# EAGLE library part M50 (library con-subd)
HARTING SUB-D
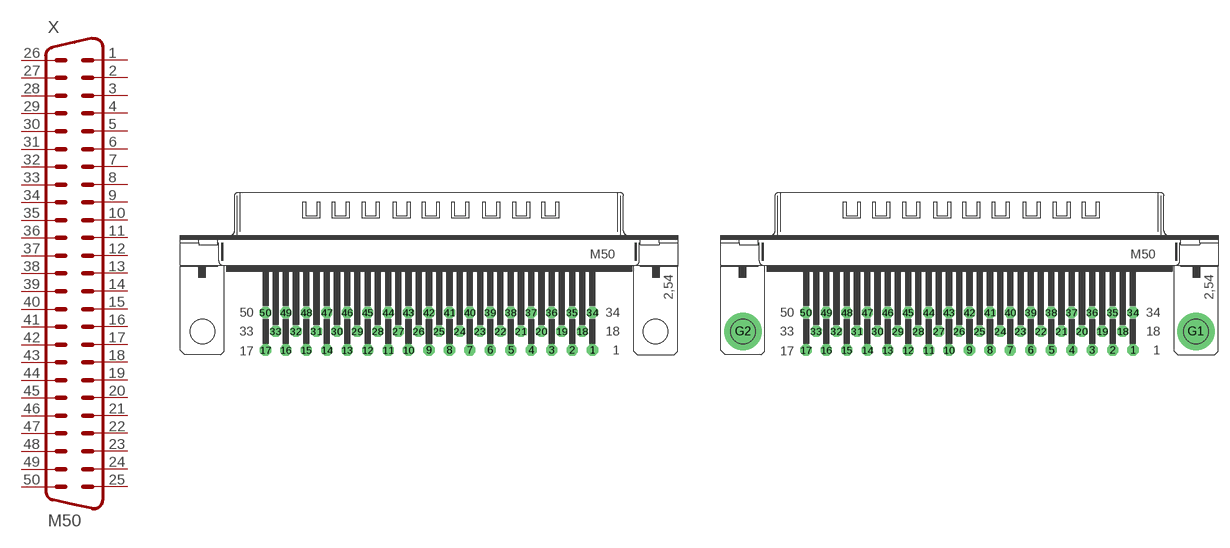
[diagram p2: symbol with the pads of M50H; footprints M50H, M50HP]

Designator prefix X

## M50H  [M50H]
1  1  pas
2  2  pas
3  3  pas
4  4  pas
5  5  pas
6  6  pas
7  7  pas
8  8  pas
9  9  pas
10  10  pas
11  11  pas
12  12  pas
13  13  pas
14  14  pas
15  15  pas
16  16  pas
17  17  pas
18  18  pas
19  19  pas
20  20  pas
21  21  pas
22  22  pas
23  23  pas
24  24  pas
25  25  pas
26  26  pas
27  27  pas
28  28  pas
29  29  pas
30  30  pas
31  31  pas
32  32  pas
33  33  pas
34  34  pas
35  35  pas
36  36  pas
37  37  pas
38  38  pas
39  39  pas
40  40  pas
41  41  pas
42  42  pas
43  43  pas
44  44  pas
45  45  pas
46  46  pas
47  47  pas
48  48  pas
49  49  pas
50  50  pas

## M50HP  [M50HP]
Pads as for M50H

## M50V  [M50V]
Pads as for M50H

## M50VP  [M50VP]
Pads as for M50H

## M50VB  [M50VB]
Pads as for M50H

## Footprint M50H (pad centres in mm)
HARTING SUB-D
drill 1.016 octagon: 1 22.073,-2.54; 2 19.329,-2.54; 3 16.561,-2.54; 4 13.792,-2.54; 5 11.049,-2.54; 6 8.28,-2.54; 7 5.512,-2.54; 8 2.769,-2.54; 9 0,-2.54; 10 -2.769,-2.54; 11 -5.512,-2.54; 12 -8.28,-2.54; 13 -11.049,-2.54; 14 -13.792,-2.54; 15 -16.561,-2.54; 16 -19.329,-2.54; 17 -22.073,-2.54; 18 20.701,0; 19 17.932,0; 20 15.189,0; 21 12.421,0; 22 9.652,0; 23 6.883,0; 24 4.14,0; 25 1.372,0; 26 -1.397,0; 27 -4.14,0; 28 -6.909,0; 29 -9.677,0; 30 -12.421,0; 31 -15.189,0; 32 -17.958,0; 33 -20.701,0; 34 22.073,2.54; 35 19.329,2.54; 36 16.561,2.54; 37 13.792,2.54; 38 11.049,2.54; 39 8.28,2.54; 40 5.512,2.54; 41 2.769,2.54; 42 0,2.54; 43 -2.769,2.54; 44 -5.512,2.54; 45 -8.28,2.54; 46 -11.049,2.54; 47 -13.792,2.54; 48 -16.561,2.54; 49 -19.329,2.54; 50 -22.073,2.54
hole 3.302 at -30.556,0
hole 3.302 at 30.556,0

## Footprint M50HP (pad centres in mm)
HARTING SUB-D
drill 1.016 octagon: 1 22.073,-2.54; 2 19.329,-2.54; 3 16.561,-2.54; 4 13.792,-2.54; 5 11.049,-2.54; 6 8.28,-2.54; 7 5.512,-2.54; 8 2.769,-2.54; 9 0,-2.54; 10 -2.769,-2.54; 11 -5.512,-2.54; 12 -8.28,-2.54; 13 -11.049,-2.54; 14 -13.792,-2.54; 15 -16.561,-2.54; 16 -19.329,-2.54; 17 -22.073,-2.54; 18 20.701,0; 19 17.932,0; 20 15.189,0; 21 12.421,0; 22 9.652,0; 23 6.883,0; 24 4.14,0; 25 1.372,0; 26 -1.397,0; 27 -4.14,0; 28 -6.909,0; 29 -9.677,0; 30 -12.421,0; 31 -15.189,0; 32 -17.958,0; 33 -20.701,0; 34 22.073,2.54; 35 19.329,2.54; 36 16.561,2.54; 37 13.792,2.54; 38 11.049,2.54; 39 8.28,2.54; 40 5.512,2.54; 41 2.769,2.54; 42 0,2.54; 43 -2.769,2.54; 44 -5.512,2.54; 45 -8.28,2.54; 46 -11.049,2.54; 47 -13.792,2.54; 48 -16.561,2.54; 49 -19.329,2.54; 50 -22.073,2.54
drill 3.302 pad 5.08 round: G1 30.556,0; G2 -30.556,0

## Footprint M50V (pad centres in mm)
HARTING SUB-D
drill 1.016 octagon: 1 22.073,-2.845; 2 19.329,-2.845; 3 16.561,-2.845; 4 13.792,-2.845; 5 11.049,-2.845; 6 8.28,-2.845; 7 5.512,-2.845; 8 2.769,-2.845; 9 0,-2.845; 10 -2.769,-2.845; 11 -5.512,-2.845; 12 -8.28,-2.845; 13 -11.049,-2.845; 14 -13.792,-2.845; 15 -16.561,-2.845; 16 -19.329,-2.845; 17 -22.073,-2.845; 18 20.701,0; 19 17.932,0; 20 15.189,0; 21 12.421,0; 22 9.652,0; 23 6.909,0; 24 4.14,0; 25 1.372,0; 26 -1.372,0; 27 -4.14,0; 28 -6.909,0; 29 -9.652,0; 30 -12.421,0; 31 -15.189,0; 32 -17.932,0; 33 -20.701,0; 34 22.073,2.845; 35 19.329,2.845; 36 16.561,2.845; 37 13.792,2.845; 38 11.049,2.845; 39 8.28,2.845; 40 5.512,2.845; 41 2.769,2.845; 42 0,2.845; 43 -2.769,2.845; 44 -5.512,2.845; 45 -8.28,2.845; 46 -11.049,2.845; 47 -13.792,2.845; 48 -16.561,2.845; 49 -19.329,2.845; 50 -22.073,2.845
hole 3.302 at -30.556,0
hole 3.302 at 30.556,0

## Footprint M50VP (pad centres in mm)
HARTING SUB-D
drill 1.016 octagon: 1 22.073,-2.845; 2 19.329,-2.845; 3 16.561,-2.845; 4 13.792,-2.845; 5 11.049,-2.845; 6 8.28,-2.845; 7 5.512,-2.845; 8 2.769,-2.845; 9 0,-2.845; 10 -2.769,-2.845; 11 -5.512,-2.845; 12 -8.28,-2.845; 13 -11.049,-2.845; 14 -13.792,-2.845; 15 -16.561,-2.845; 16 -19.329,-2.845; 17 -22.073,-2.845; 18 20.701,0; 19 17.932,0; 20 15.189,0; 21 12.421,0; 22 9.652,0; 23 6.909,0; 24 4.14,0; 25 1.372,0; 26 -1.372,0; 27 -4.14,0; 28 -6.909,0; 29 -9.652,0; 30 -12.421,0; 31 -15.189,0; 32 -17.932,0; 33 -20.701,0; 34 22.073,2.845; 35 19.329,2.845; 36 16.561,2.845; 37 13.792,2.845; 38 11.049,2.845; 39 8.28,2.845; 40 5.512,2.845; 41 2.769,2.845; 42 0,2.845; 43 -2.769,2.845; 44 -5.512,2.845; 45 -8.28,2.845; 46 -11.049,2.845; 47 -13.792,2.845; 48 -16.561,2.845; 49 -19.329,2.845; 50 -22.073,2.845
drill 3.302 pad 5.08 round: G1 30.556,0; G2 -30.556,0

## Footprint M50VB (pad centres in mm)
drill 1.016 octagon: 1 22.073,-2.845; 2 19.329,-2.845; 3 16.561,-2.845; 4 13.792,-2.845; 5 11.049,-2.845; 6 8.28,-2.845; 7 5.512,-2.845; 8 2.769,-2.845; 9 0,-2.845; 10 -2.769,-2.845; 11 -5.512,-2.845; 12 -8.28,-2.845; 13 -11.049,-2.845; 14 -13.792,-2.845; 15 -16.561,-2.845; 16 -19.329,-2.845; 17 -22.073,-2.845; 18 20.701,0; 19 17.932,0; 20 15.189,0; 21 12.421,0; 22 9.652,0; 23 6.909,0; 24 4.14,0; 25 1.372,0; 26 -1.372,0; 27 -4.14,0; 28 -6.909,0; 29 -9.652,0; 30 -12.421,0; 31 -15.189,0; 32 -17.932,0; 33 -20.701,0; 34 22.073,2.845; 35 19.329,2.845; 36 16.561,2.845; 37 13.792,2.845; 38 11.049,2.845; 39 8.28,2.845; 40 5.512,2.845; 41 2.769,2.845; 42 0,2.845; 43 -2.769,2.845; 44 -5.512,2.845; 45 -8.28,2.845; 46 -11.049,2.845; 47 -13.792,2.845; 48 -16.561,2.845; 49 -19.329,2.845; 50 -22.073,2.845